# Altium footprint library OSSI.PCBLIB: 194 footprints (part 2 of 13)
Each footprint in its own frame and in the unit in brackets; x right, y up, seen from the top. Pads: shape width x height; smd on the part's side, far side on the other; paste and mask are expansions set on the pad; w line width, h text height; cw(c..) or ccw(c..) is an arc to the next point about the centre after c.
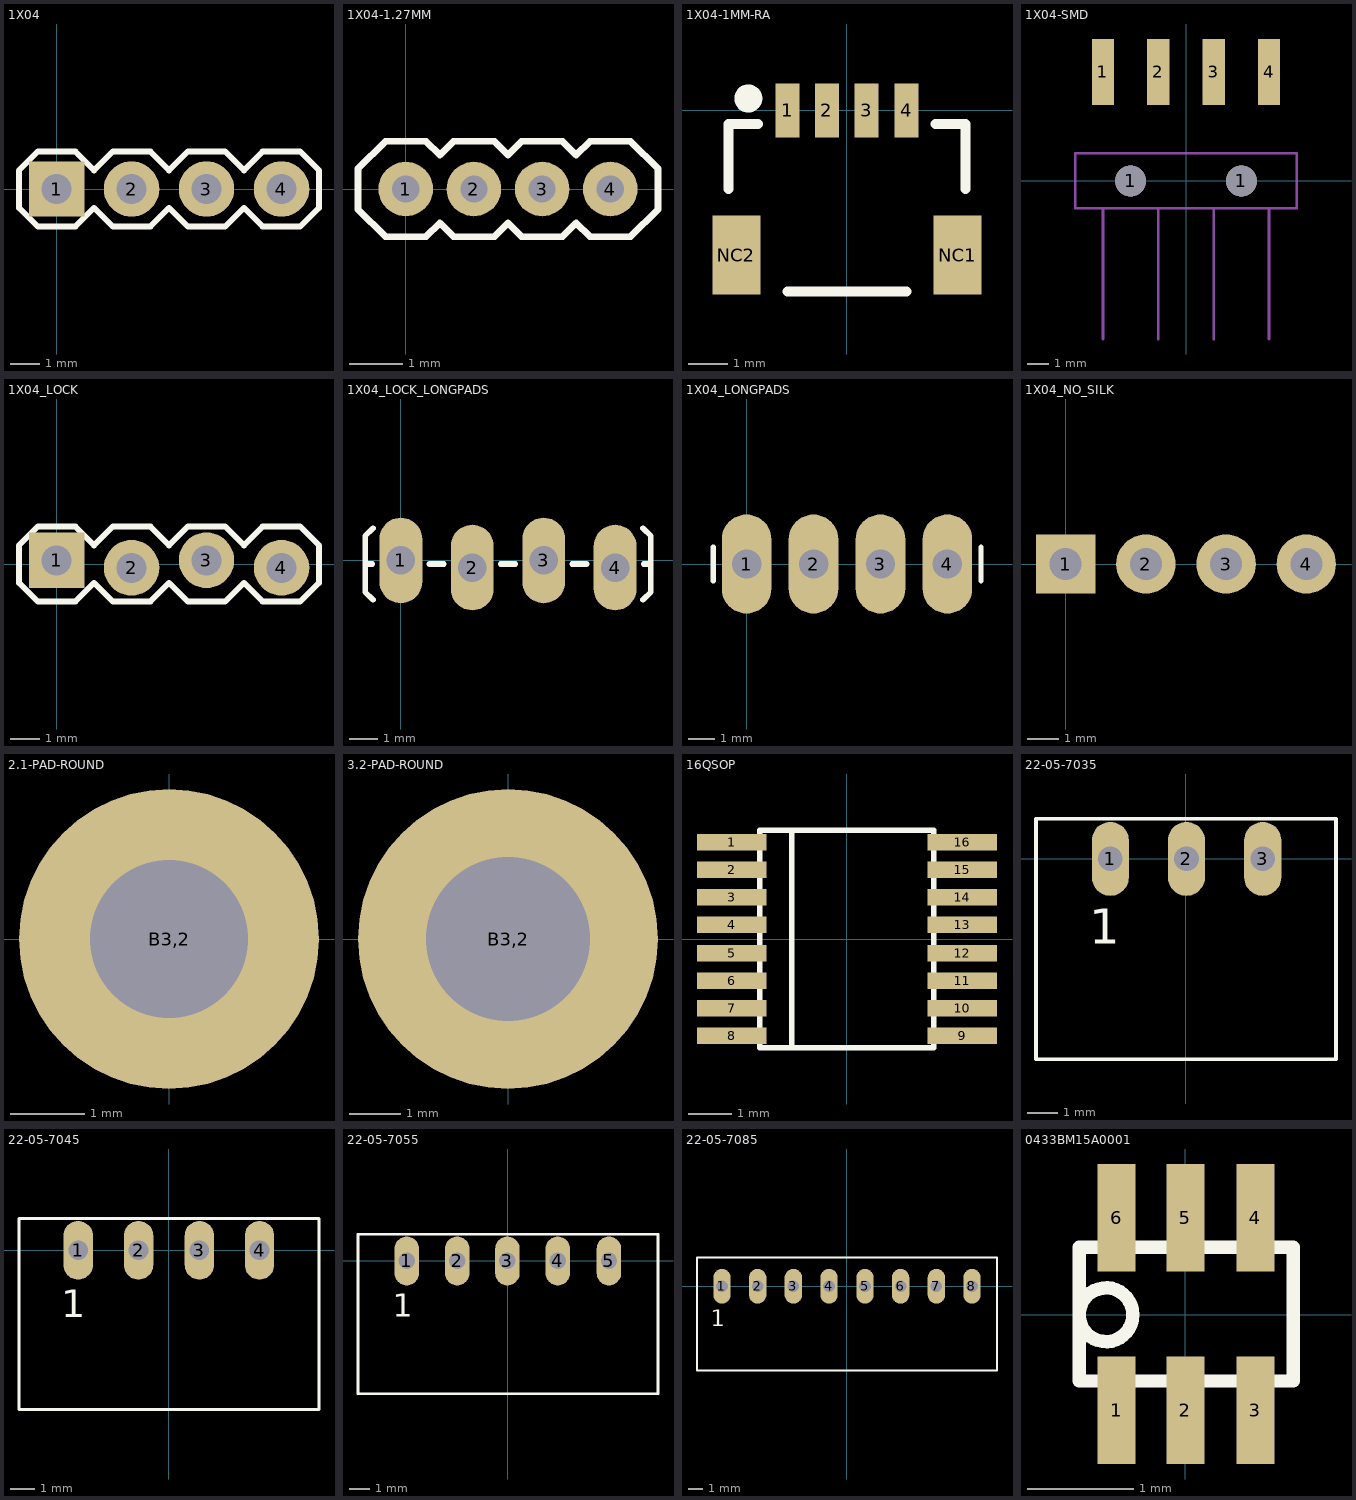
[diagram p1: the footprints below, top view; thin cyan lines are the x and y axes]

## 1X04 [mil]
pads (4):
  rect 74x74 hole 40: 1(0,0)
  round 74 hole 40: 2(100,0) 3(200,0) 4(300,0)
Top Overlay:
  lines w8: -50,-25 -50,25 -25,50 25,50 50,25 75,50 125,50 150,25 175,50 225,50 250,25 275,50 325,50 350,25 350,-25 325,-50 275,-50 250,-25 225,-50 175,-50 150,-25 125,-50 75,-50 50,-25 25,-50 -25,-50 -50,-25
Mechanical 2:
  text ">NAME" at -53,72 h77.5
Mechanical 4:
  text ">VALUE" at -50,-125 h77.5
Mechanical 16:
  rectangle: 290,-10 310,10
  rectangle: 190,-10 210,10
  rectangle: 90,-10 110,10
  rectangle: -10,-10 10,10

## 1X04-1.27MM [mil]
pads (4):
  round 40 hole 20: 1(0,0) 2(50,0) 3(100,0) 4(150,0)
Top Overlay:
  lines w5: -35,-15 -15,-35 15,-35 25,-25 35,-35 65,-35 75,-25 85,-35 115,-35 125,-25 135,-35 165,-35 185,-15 185,15 165,35 135,35 125,25 115,35 85,35 75,25 65,35 35,35 25,25 15,35 -15,35 -35,15 -35,-15
Mechanical 2:
  text ">NAME" at -20,50 h24.8
Mechanical 4:
  text ">VALUE" at -20,-65 h24.8

## 1X04-1MM-RA [mil]
pads (6):
  rect 24x54 smd: 1(-59.06,0) 2(-19.68,0) 3(20,0) 4(60,0)
  rect 48x79 smd: NC1(111,-144.69) NC2(-110.24,-144.69)
Top Overlay:
  circle w16: c-98.43,12 r6
  lines w10: -118.11,-78.74 -118.11,-13.78 -88.58,-13.78 ; -59.06,-181.1 60,-181.1 ; 89,-13.78 119,-13.78 119,-78.74
Mechanical 2:
  text ">NAME" at -68.11,69 h24.8
Mechanical 4:
  text ">VALUE" at 137,69 h24.8

## 1X04-SMD [mil]
pads (6):
  rect 40x119 smd: 1(-150,197) 2(-50,197) 3(50,197) 4(150,197)
  round 56 hole 56: 1(-100,0) 1(100,0)
Mechanical 16:
  lines w5: -150,-285.43 -150,-49.21 ; -50,-285.43 -50,-49.21 ; 50,-285.43 50,-49.21 ; 150,-285.43 150,-49.21 ; -150,-49.21 -200,-49.21 -200,50 200,50 200,-49.21 150,-49.21 ; -150,-49.21 -50,-49.21 ; -50,-49.21 50,-49.21 ; 50,-49.21 150,-49.21

## 1X04_LOCK [mil]
pads (4):
  rect 74x74 hole 40: 1(0,5)
  round 74 hole 40: 2(100,-5) 3(200,5) 4(300,-5)
Top Overlay:
  lines w8: -50,-25 -50,25 -25,50 25,50 50,25 75,50 125,50 150,25 175,50 225,50 250,25 275,50 325,50 350,25 350,-25 325,-50 275,-50 250,-25 225,-50 175,-50 150,-25 125,-50 75,-50 50,-25 25,-50 -25,-50 -50,-25
Mechanical 2:
  text ">NAME" at -53,72 h77.5
Mechanical 4:
  text ">VALUE" at -50,-125 h77.5
Mechanical 16:
  rectangle: 290,-10 310,10
  rectangle: 190,-10 210,10
  rectangle: 90,-10 110,10
  rectangle: -10,-10 10,10

## 1X04_LOCK_LONGPADS [mil]
pads (4):
  oval 60x120 hole 40: 1(0,0) 2(100,-10) 3(200,0) 4(300,-10)
Top Overlay:
  lines w8: -40,-5 -50,-5 ; -39,-55 -50,-44 -50,-5 ; -39,45 -50,34 -50,-5 ; 40,-5 60,-5 ; 140,-5 160,-5 ; 240,-5 260,-5 ; 339,-55 350,-44 350,-5 ; 339,45 350,34 350,-5 ; 340,-5 350,-5
Mechanical 2:
  text ">NAME" at -50,70 h42.5
Mechanical 4:
  text ">VALUE" at -50,-130 h42.5
Mechanical 16:
  rectangle: -11.5,-16.5 12,7
  rectangle: 89,-16.5 112,7
  rectangle: 189,-16.5 212,7
  region: 312.25,-16.25 312.25,6.75 288.75,6.75 288.75,-16.25

## 1X04_LONGPADS [mil]
pads (4):
  oval 74x148 hole 44: 1(0,0) 2(100,0) 3(200,0) 4(300,0)
Top Overlay:
  lines w8: -50,-25 -50,25 ; 350,-25 350,25
Mechanical 2:
  text ">NAME" at -53,97 h77.5
Mechanical 4:
  text ">VALUE" at -50,-150 h77.5
Mechanical 16:
  rectangle: 290,-10 310,10
  rectangle: 190,-10 210,10
  rectangle: 90,-10 110,10
  rectangle: -10,-10 10,10

## 1X04_NO_SILK [mil]
pads (4):
  rect 74x74 hole 40: 1(0,0)
  round 74 hole 40: 2(100,0) 3(200,0) 4(300,0)
Mechanical 2:
  text ">NAME" at -53,72 h77.5
Mechanical 4:
  text ">VALUE" at -50,-125 h77.5
Mechanical 16:
  rectangle: 290,-10 310,10
  rectangle: 190,-10 210,10
  rectangle: 90,-10 110,10
  rectangle: -10,-10 10,10

## 2.1-PAD-ROUND [mil]
pads (1):
  round 158 hole 83: B3,2(0,0)

## 3.2-PAD-ROUND [mil]
pads (1):
  round 230 hole 126: B3,2(0,0)

## 16QSOP [mil]
pads (16):
  rect 63x15 smd: 1(-104.33,88) 2(-104.33,63) 3(-104.33,38) 4(-104.33,13) 5(-104.33,-12.5) 6(-104.33,-37.5) 7(-104.33,-62.5) 8(-104.33,-87.5) 9(105,-87.5) 10(105,-62.5) 11(105,-37.5) 12(105,-12.5) 13(105,13) 14(105,38) 15(105,63) 16(105,88)
Top Overlay:
  lines w5: -50,-98.43 -78.74,-98.43 -78.74,99 -50,99 ; -50,-98.43 79,-98.43 79,99 -50,99 ; -50,-98.43 -50,99
Mechanical 2:
  text ">NAME" at -125,125 h77.5
Mechanical 4:
  text ">VALUE" at -125,-175 h77.5

## 22-05-7035 [mil]
pads (3):
  oval 48x96 hole 32: 1(-97.64,0) 2(1,0) 3(100,0)
Top Overlay:
  lines w5: -194.09,-259.84 195,-259.84 195,52 -194.09,52 -194.09,-259.84
  text "1" at -125,-125 h77.5
Mechanical 2:
  text ">NAME" at -250,-250 h108.5
Mechanical 4:
  text ">VALUE" at 300,-250 h108.5

## 22-05-7045 [mil]
pads (4):
  oval 48x96 hole 32: 1(-147.64,0) 2(-49.21,0) 3(50,0) 4(148,0)
Top Overlay:
  lines w5: -244.09,-259.84 245,-259.84 245,52 -244.09,52 -244.09,-259.84
  text "1" at -175,-125 h77.5
Mechanical 2:
  text ">NAME" at -300,-250 h108.5
Mechanical 4:
  text ">VALUE" at 350,-250 h108.5

## 22-05-7055 [mil]
pads (5):
  oval 48x96 hole 32: 1(-197.64,0) 2(-99.21,0) 3(-0.79,0) 4(98,0) 5(198,0)
Top Overlay:
  lines w5: -293.31,-259.84 294,-259.84 294,52 -293.31,52 -293.31,-259.84
  text "1" at -225,-125 h77.5
Mechanical 2:
  text ">NAME" at -300,-250 h108.5
Mechanical 4:
  text ">VALUE" at 400,-250 h108.5

## 22-05-7085 [mil]
pads (8):
  oval 48x96 hole 32: 1(-344.49,0) 2(-246.06,0) 3(-147.64,0) 4(-49.21,0) 5(50,0) 6(148,0) 7(247,0) 8(345,0)
Top Overlay:
  lines w5: -413.39,-232.28 414,-232.28 414,79 -413.39,79 -413.39,-232.28
  text "1" at -375,-125 h77.5
Mechanical 2:
  text ">NAME" at -450,-250 h108.5
Mechanical 4:
  text ">VALUE" at 500,-250 h108.5

## 0433BM15A0001 [mil]
pads (6):
  rect 14x40 smd: 1(-25.59,-35.43) 2(0,-35.43) 3(26,-35.43) 4(26,36) 5(0,36) 6(-25.59,36)
Top Overlay:
  circle w5: c-29.53,0 r10
  lines w5: -39.37,-24.61 40,-24.61 40,25 -39.37,25 -39.37,-24.61
Mechanical 2:
  text ">NAME" at -118.11,-118.11 h77.5
Mechanical 4:
  text ">VALUE" at -118.11,-177.17 h77.5